# EAGLE library part MSD-12-A (library MSD-12-A)
MSD-12-A - Micro SD Card Connector, 9 Contacts, Connector and Ejector, Push In, Auto Eject Out, Surface Mount, 1.45 mm Height Above Board, Gold Flash Source: Datasheet <https://www.sameskydevices.com/product/resource/MSD-12-A.pdf>
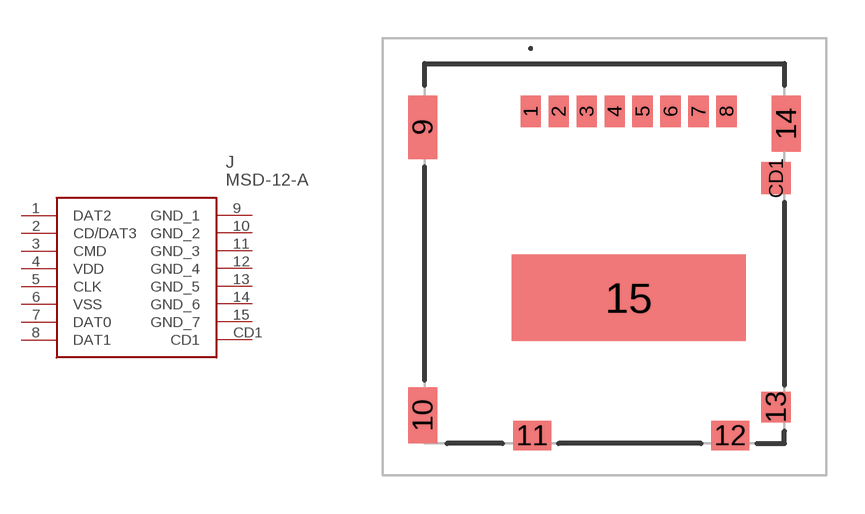
[diagram p0: symbol with the pads of MSD12A; footprint MSD12A]

Designator prefix J

## MSD-12-A (Description: MSD-12-A - Micro SD Card Connector, 9 Contacts, Connector and Ejector, Push In, Auto Eject Out, Surface Mount, 1.45 mm Height Above Board, Gold Flash; Height: 1.6mm; Manufacturer_Name: Same Sky; Manufacturer_Part_Number: MSD-12-A; Mouser_Part_Number: 179-MSD-12-A; Mouser_Price-Stock: https://www.mouser.co.uk/ProductDetail/Same-Sky/MSD-12-A?qs=Z%252BL2brAPG1KTGgvYejyeAQ%3D%3D)  [MSD12A]
1  DAT2
2  CD/DAT3
3  CMD
4  VDD
5  CLK
6  VSS
7  DAT0
8  DAT1
9  GND_1
10  GND_2
11  GND_3
12  GND_4
13  GND_5
14  GND_6
15  GND_7
CD1  CD1

## Footprint MSD12A (pad centres in mm)
MSD-12-A-3
smd 0.8 x 1.24: 1 -2.9,5.725; 2 -1.8,5.725; 3 -0.7,5.725; 4 0.4,5.725; 5 1.5,5.725; 6 2.6,5.725; 7 3.7,5.725; 8 4.8,5.725
smd 1.15 x 2.5: 9 -7.145,5.096
smd 1.15 x 2.2: 10 -7.145,-6.234; 14 7.145,5.245
smd 1.5 x 1.15: 11 -2.84,-7.029; 12 4.94,-7.029
smd 1.16 x 1.2: 13 6.74,-5.904
smd 9.2 x 3.4: 15 0.95,-1.605
smd 1.16 x 1.25: CD1 6.74,3.096